# Altium integrated library CC0603JRNPO9BN250.IntLib: 1 symbol
Pins are listed as number, name and electrical type; pins without a type are passive.

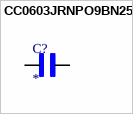
[diagram p0: symbol CC0603JRNPO9BN250]

## CC0603JRNPO9BN250
designator C?
25 pF Â±5% 50V Ceramic Capacitor C0G, NP0 0603 (1608 Metric); MF: Yageo; MP: CC0603JRNPO9BN250; SnapEDA_Link: https://www.snapeda.com/parts/CC0603JRNPO9BN250/Yageo/view-part/?ref=snap; Package: 0603 Yageo; Value: *; Check_prices: https://www.snapeda.com/parts/CC0603JRNPO9BN250/Yageo/view-part/?ref=eda
footprint CAPC1608X90
pins: 1, 2